# Altium footprint library eTSSOP-28.PcbLib: 1 footprints
Each footprint in its own frame and in the unit in brackets; x right, y up, seen from the top. Pads: shape width x height; smd on the part's side, far side on the other; paste and mask are expansions set on the pad; w line width, h text height; cw(c..) or ccw(c..) is an arc to the next point about the centre after c.
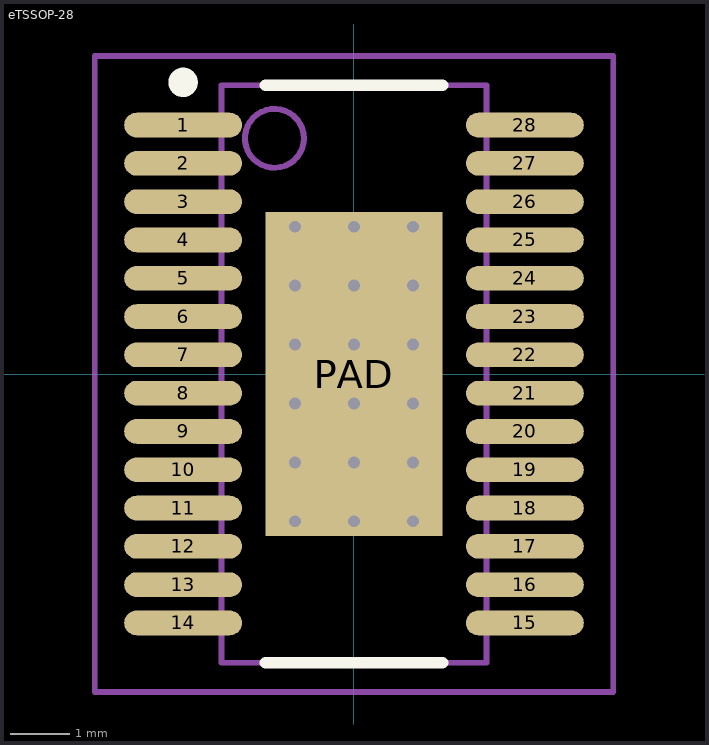
[diagram p0: the footprint, top view; thin cyan lines are the x and y axes]

## eTSSOP-28 [mm] "TSOP, 28-Leads, Body 9.7x4.4mm, Pitch 0.65mm, Exposed Pad, IPC Low Density"
height 1.1
pads (29):
  oval 2x0.42 smd: 1(-2.9,4.225) 2(-2.9,3.575) 3(-2.9,2.925) 4(-2.9,2.275) 5(-2.9,1.625) 6(-2.9,0.975) 7(-2.9,0.325) 8(-2.9,-0.325) 9(-2.9,-0.975) 10(-2.9,-1.625) 11(-2.9,-2.275) 12(-2.9,-2.925) 13(-2.9,-3.575) 14(-2.9,-4.225) 15(2.9,-4.225) 16(2.9,-3.575) 17(2.9,-2.925) 18(2.9,-2.275) 19(2.9,-1.625) 20(2.9,-0.975) 21(2.9,-0.325) 22(2.9,0.325) 23(2.9,0.975) 24(2.9,1.625) 25(2.9,2.275) 26(2.9,2.925) 27(2.9,3.575) 28(2.9,4.225)
  rect 3x5.5 smd: PAD(0,0)
via 0,0.5 diameter 0.4 hole 0.2
via 1,0.5 diameter 0.4 hole 0.2
via 0,-0.5 diameter 0.4 hole 0.2
via 1,-0.5 diameter 0.4 hole 0.2
via 0,-1.5 diameter 0.4 hole 0.2
via 1,-1.5 diameter 0.4 hole 0.2
via 1,1.5 diameter 0.4 hole 0.2
via 0,1.5 diameter 0.4 hole 0.2
via 1,-2.5 diameter 0.4 hole 0.2
via 0,-2.5 diameter 0.4 hole 0.2
via -1,-2.5 diameter 0.4 hole 0.2
via -1,1.5 diameter 0.4 hole 0.2
via -1,-1.5 diameter 0.4 hole 0.2
via -1,-0.5 diameter 0.4 hole 0.2
via -1,0.5 diameter 0.4 hole 0.2
via -1,2.5 diameter 0.4 hole 0.2
via 0,2.5 diameter 0.4 hole 0.2
via 1,2.5 diameter 0.4 hole 0.2
Top Overlay:
  circle w0.25: c-2.9,4.95 r0.125
  lines w0.2: -1.5,-4.9 1.5,-4.9 ; -1.5,4.9 1.5,4.9
Mechanical 13:
  circle w0.1: c-1.35,4 r0.5
  lines w0.1: -2.25,-4.9 2.25,-4.9 2.25,4.9 -2.25,4.9 -2.25,-4.9
Mechanical 15:
  lines w0.1: -4.4,-5.4 4.4,-5.4 4.4,5.4 -4.4,5.4 -4.4,-5.4 ; -0.5,0 0.5,0 -0.5,0 ; 0,-0.5 0,0.5 0,-0.5
3D body: height 1.1, standoff 0.05, extent -2.25,-4.9 2.25,4.9